# Altium footprint library DF51K-8DP-2DS(800).PcbLib: 1 footprints
Each footprint in its own frame and in the unit in brackets; x right, y up, seen from the top. Pads: shape width x height; smd on the part's side, far side on the other; paste and mask are expansions set on the pad; w line width, h text height; cw(c..) or ccw(c..) is an arc to the next point about the centre after c.
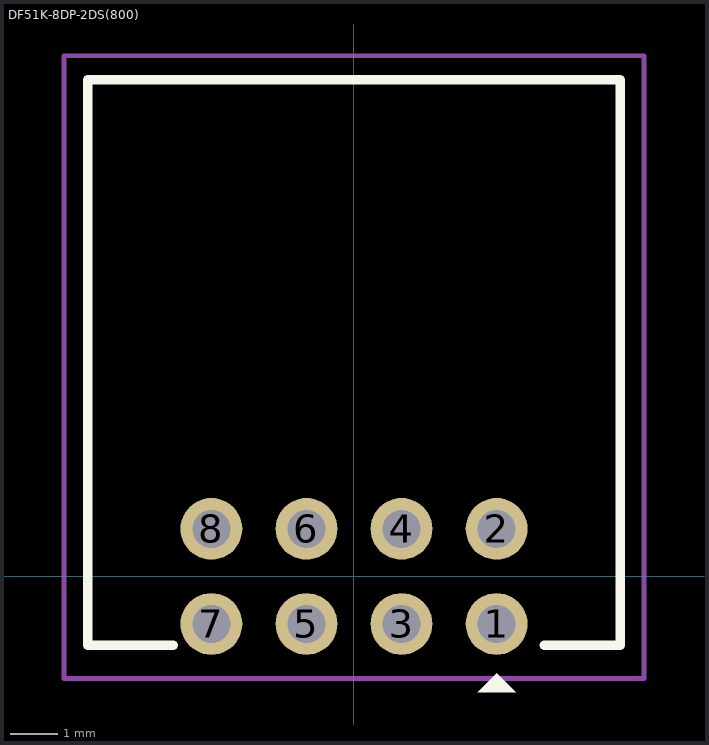
[diagram p0: the footprint, top view; thin cyan lines are the x and y axes]

## DF51K-8DP-2DS(800) [mm]
pads (8):
  round 1.3 hole 0.8: 1(3,-1) 2(3,1) 3(1,-1) 4(1,1) 5(-1,-1) 6(-1,1) 7(-3,-1) 8(-3,1)
Top Overlay:
  region: 3.398,-2.436 2.598,-2.436 2.998,-2.036
  lines w0.2: -3.8,-1.45 -5.6,-1.45 -5.6,10.45 5.6,10.45 5.6,-1.45 4,-1.45
Top Courtyard:
  lines w0.1: -6.1,-2.15 -6.1,10.95 6.1,10.95 6.1,-2.15 -3,-2.15 -6.1,-2.15
3D body "DF51K-8DP-2DS-800---3DModel-STEP-1.STEP": height 8.78, standoff -2.97, extent -5.6,-1.365 5.6,10.535